# Altium schematic symbol library MSD-12-A.SchLib: 1 symbol
Pins are listed as number, name and electrical type; pins without a type are passive.

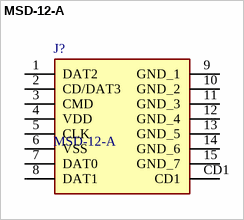
[diagram p0: symbol MSD-12-A]

## MSD-12-A
designator J?
MSD-12-A - Micro SD Card Connector, 9 Contacts, Connector and Ejector, Push In, Auto Eject Out, Surface Mount, 1.45 mm Height Above Board, Gold Flash; Manufacturer_Name: Same Sky; Geometry.Height: 1.6mm; Mouser Part Number: 179-MSD-12-A; Mouser Price/Stock: https://www.mouser.co.uk/ProductDetail/Same-Sky/MSD-12-A?qs=Z%252BL2brAPG1KTGgvYejyeAQ%3D%3D; Manufacturer_Part_Number: MSD-12-A; Datasheet Link: https://www.sameskydevices.com/product/resource/MSD-12-A.pdf
footprint MSD12A
pins: 1 DAT2, 2 CD/DAT3, 3 CMD, 4 VDD, 5 CLK, 6 VSS, 7 DAT0, 8 DAT1, 9 GND_1, 10 GND_2, 11 GND_3, 12 GND_4, 13 GND_5, 14 GND_6, 15 GND_7, CD1